# EAGLE library part SINATRA (library MAÑE)
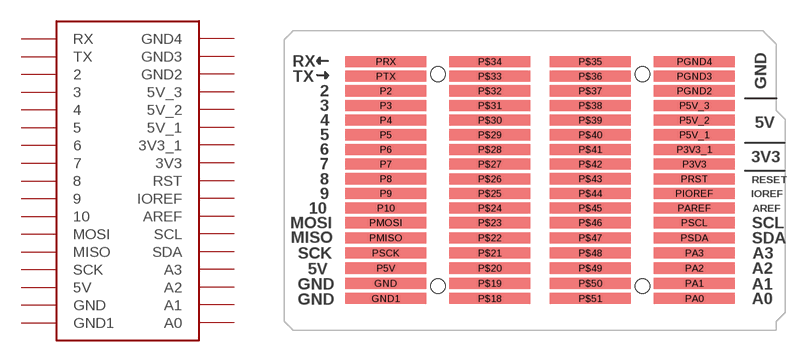
[diagram p6: symbol with the pads of PROTOBOARD; footprint PROTOBOARD]

Designator prefix -

## SINATRA  [PROTOBOARD]
GND  GND
GND1  GND1
P2  2
P3  3
P3V3  3V3
P3V3_1  3V3_1
P4  4
P5  5
P5V  5V
P5V_1  5V_1
P5V_2  5V_2
P5V_3  5V_3
P6  6
P7  7
P8  8
P9  9
P10  10
PA0  A0
PA1  A1
PA2  A2
PA3  A3
PAREF  AREF
PGND2  GND2
PGND3  GND3
PGND4  GND4
PIOREF  IOREF
PMISO  MISO
PMOSI  MOSI
PRST  RST
PRX  RX
PSCK  SCK
PSCL  SCL
PSDA  SDA
PTX  TX

## Footprint PROTOBOARD (pad centres in mm)
smd 13.8 x 1.9: GND 8.65,5.3; GND1 8.65,2.7; P2 8.65,38.28; P3 8.65,35.77; P3V3 61.45,25.73; P3V3_1 61.45,28.24; P4 8.65,33.26; P5 8.65,30.75; P5V 8.65,7.9; P5V_1 61.45,30.75; P5V_2 61.45,33.26; P5V_3 61.45,35.77; P6 8.65,28.24; P7 8.65,25.73; P8 8.65,23.22; P9 8.65,20.71; P10 8.65,18.2; P$18 26.45,2.7; P$19 26.45,5.3; P$20 26.45,7.9; P$21 26.45,10.5; P$22 26.45,13.1; P$23 26.45,15.7; P$24 26.45,18.2; P$25 26.45,20.71; P$26 26.45,23.2; P$27 26.45,25.73; P$28 26.45,28.24; P$29 26.45,30.75; P$30 26.45,33.26; P$31 26.45,35.77; P$32 26.45,38.28; P$33 26.45,40.79; P$34 26.45,43.3; P$35 43.65,43.3; P$36 43.65,40.79; P$37 43.65,38.28; P$38 43.65,35.77; P$39 43.65,33.26; P$40 43.65,30.75; P$41 43.65,28.24; P$42 43.65,25.73; P$43 43.65,23.22; P$44 43.65,20.71; P$45 43.65,18.2; P$46 43.65,15.7; P$47 43.65,13.1; P$48 43.65,10.5; P$49 43.65,7.9; P$50 43.65,5.3; P$51 43.65,2.7; PA0 61.45,2.7; PA1 61.45,5.3; PA2 61.45,7.9; PA3 61.45,10.5; PAREF 61.45,18.2; PGND2 61.45,38.28; PGND3 61.45,40.79; PGND4 61.45,43.3; PIOREF 61.45,20.71; PMISO 8.65,13.1; PMOSI 8.65,15.7; PRST 61.45,23.2; PRX 8.65,43.3; PSCK 8.65,10.5; PSCL 61.45,15.7; PSDA 61.45,13.1; PTX 8.65,40.79
hole 2.5 at 17.59,41.14
hole 2.5 at 17.59,4.83
hole 2.5 at 52.59,41.14
hole 2.5 at 52.59,4.83